# Altium schematic symbol library 0734120110.SchLib: 1 symbol
Pins are listed as number, name and electrical type; pins without a type are passive.

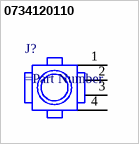
[diagram p0: symbol 0734120110]

## 0734120110
designator J?
=Description
pins: 1, 2, 3, 4